# EAGLE library part SWITCH_ELMA_01_6POL (library 1A-meinLib)
Rotary Switch Type 01, 6-polig, ELMA
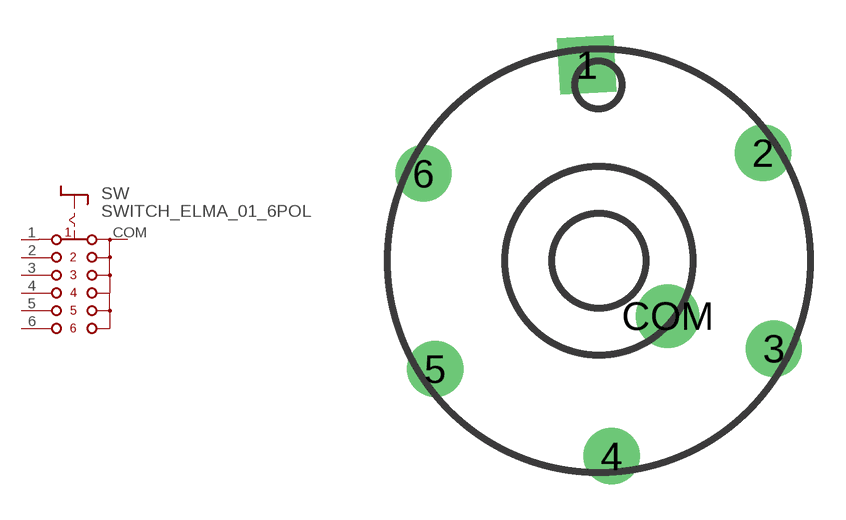
[diagram p326: symbol with the pads of SWITCH_ELMA_01-1X6; footprint SWITCH_ELMA_01-1X6]

Designator prefix SW

## SWITCH_ELMA_01_6POL  [SWITCH_ELMA_01-1X6]
1  1  pas
2  2  pas
3  3  pas
4  4  pas
5  5  pas
6  6  pas
COM  A  pas

## Footprint SWITCH_ELMA_01-1X6 (pad centres in mm)
Rotary Switch Type 01, 6-polig, ELMA
drill 1.6 square: 1 -0.513,8.342
drill 1.6 round: 2 6.977,4.593; 3 7.443,-3.732; 4 0.532,-8.316; 5 -6.967,-4.603; 6 -7.468,3.719
drill 1.8 round: COM 2.923,-2.349